# EAGLE library part LM5165 (library everykey)
TI Buck regulator, 150mA Iout max, 65V Vin max, low Iq
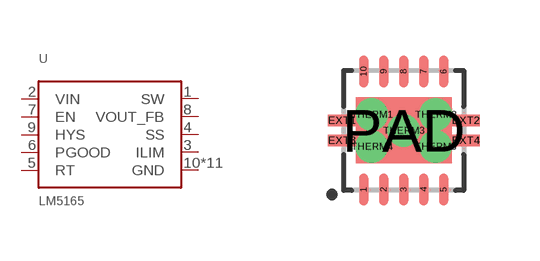
[diagram p98: symbol with the pads of SON10-0.5-EP-VIAS; footprint SON10-0.5-EP-VIAS]

Designator prefix -

## LM5165-VSON10  [SON10-0.5-EP-VIAS]
1  SW
2  VIN  pwr
3  ILIM  in
4  SS  in
5  RT  in
6  PGOOD
7  EN  in
8  VOUT_FB  in
9  HYS  in
10  GND  pwr
EXT1  GND  pwr
EXT2  GND  pwr
EXT3  GND  pwr
EXT4  GND  pwr
PAD  GND  pwr
THERM1  GND  pwr
THERM2  GND  pwr
THERM3  GND  pwr
THERM4  GND  pwr
THERM5  GND  pwr

## Footprint SON10-0.5-EP-VIAS (pad centres in mm)
SON-10 package with exposed pad and five thermal vias
smd 0.23 x 0.8: 1 -1,-1.475; 2 -0.5,-1.475; 3 0,-1.475; 4 0.5,-1.475; 5 1,-1.475; 6 1,1.475; 7 0.5,1.475; 8 0,1.475; 9 -0.5,1.475; 10 -1,1.475
smd 0.7 x 0.28: EXT1 -1.55,0.25; EXT2 1.55,0.25; EXT3 -1.55,-0.25; EXT4 1.55,-0.25
smd 2.4 x 1.65: PAD 0,0
drill 0.3: THERM1 -0.8,0.4; THERM2 0.8,0.4; THERM3 0,0; THERM4 -0.8,-0.4; THERM5 0.8,-0.4